# Altium footprint library PRJ_LIB_LTC2983_Card.PcbLib: 28 footprints (part 2 of 2)
Each footprint in its own frame and in the unit in brackets; x right, y up, seen from the top. Pads: shape width x height; smd on the part's side, far side on the other; paste and mask are expansions set on the pad; w line width, h text height; cw(c..) or ccw(c..) is an arc to the next point about the centre after c.
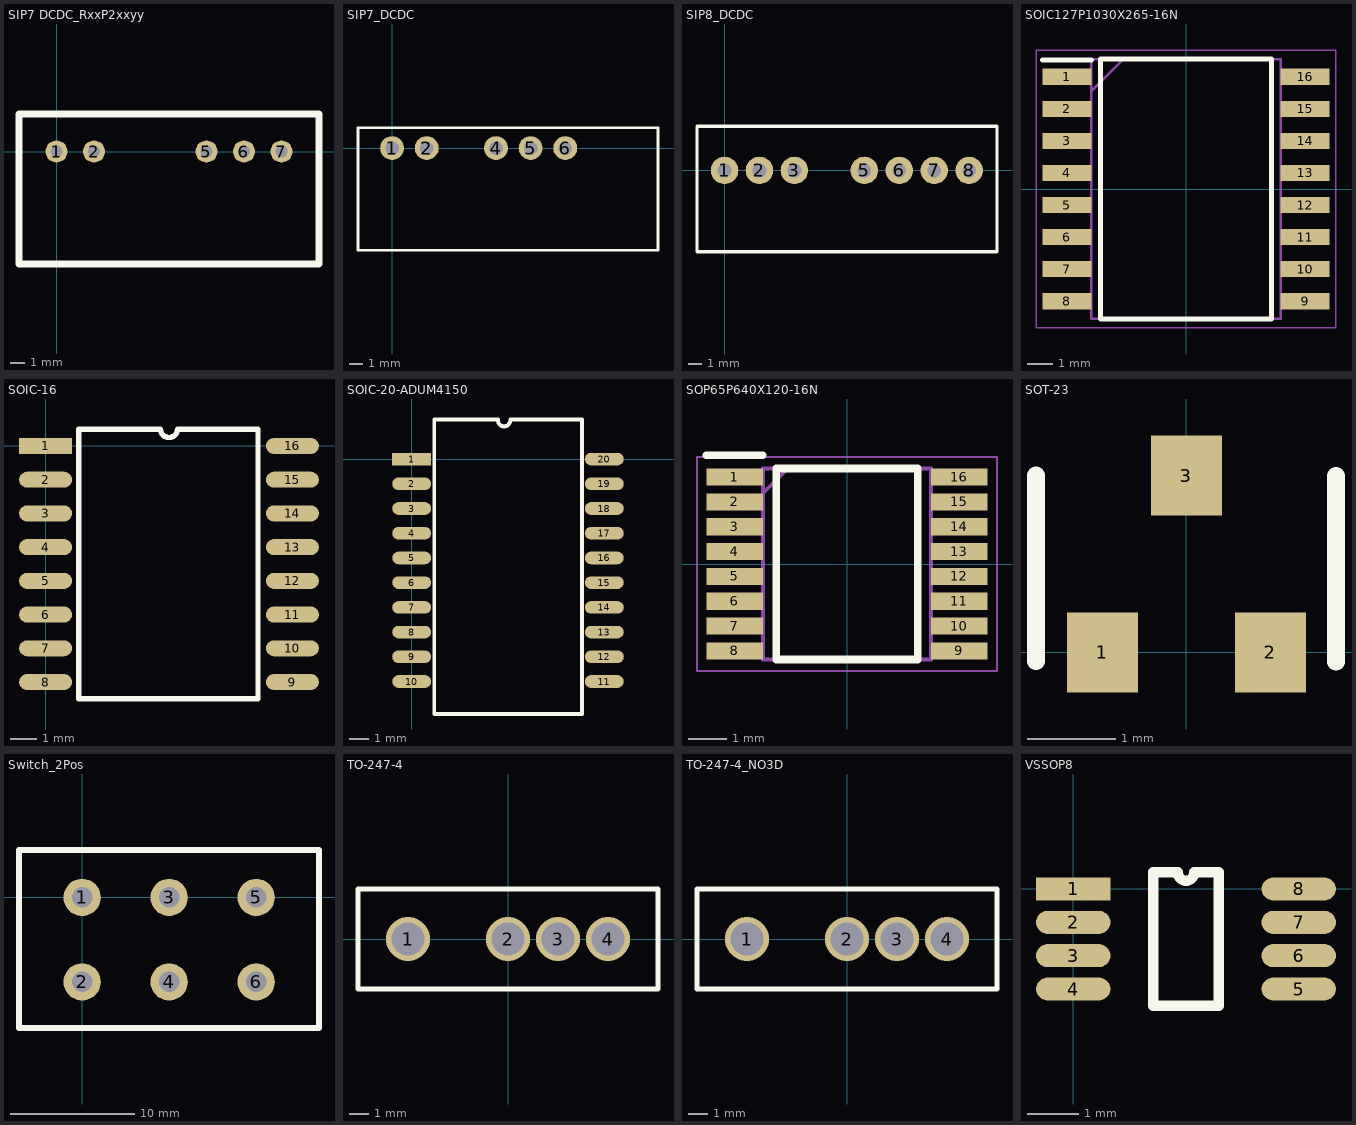
[diagram p1: the footprints below, top view; thin cyan lines are the x and y axes]

## SIP7 DCDC_RxxP2xxyy [mm]
pads (5):
  round 1.5 hole 0.8: 1(0,0) 2(2.54,0) 5(10.16,0) 6(12.7,0) 7(15.24,0)
Top Overlay:
  lines w0.5: -2.54,-7.62 -2.54,2.54 17.78,2.54 17.78,-7.62 -2.54,-7.62
3D body: height 0, standoff 0, extent 14.992,-0.249 15.49,0.25
3D body: height 0, standoff 0, extent 12.452,-0.249 12.95,0.25
3D body: height 0, standoff 0, extent 9.912,-0.249 10.41,0.25
3D body: height 0, standoff 0, extent 2.292,-0.249 2.79,0.25
3D body: height 0, standoff 0, extent -0.249,-0.25 0.249,0.25
3D body: height 12.5, standoff 0, extent -2.54,-7.62 17.78,2.54

## SIP7_DCDC [mm]
pads (5):
  round 1.75 hole 1: 1(0,0) 2(2.54,0) 4(7.62,0) 5(10.16,0) 6(12.7,0)
Top Overlay:
  lines w0.2: -2.5,-7.5 19.5,-7.5 19.5,1.5 -2.5,1.5 -2.5,-7.5
3D body: height 0, standoff 0, extent 12.452,-0.249 12.95,0.25
3D body: height 0, standoff 0, extent 9.912,-0.249 10.41,0.25
3D body: height 0, standoff 0, extent 7.372,-0.249 7.87,0.25
3D body: height 0, standoff 0, extent 2.292,-0.249 2.79,0.25
3D body: height 0, standoff 0, extent -0.249,-0.25 0.249,0.25
3D body: height 10, standoff 0, extent -2.5,-7.5 19.5,1.5

## SIP8_DCDC [mm]
pads (7):
  round 2 hole 1: 1(0,0) 2(2.54,0) 3(5.08,0) 5(10.16,0) 6(12.7,0) 7(15.24,0) 8(17.78,0)
Top Overlay:
  lines w0.25: -2,-5.9 1,-5.9 19.8,-5.9 19.8,3.2 -2,3.2 -2,-5.9
3D body: height 11.2, standoff 0, extent -2,-5.9 19.8,3.2

## SOIC127P1030X265-16N [mm]
pads (16):
  rect 1.95x0.65 smd: 1(-4.725,4.445) 2(-4.725,3.175) 3(-4.725,1.905) 4(-4.725,0.635) 5(-4.725,-0.635) 6(-4.725,-1.905) 7(-4.725,-3.175) 8(-4.725,-4.445) 9(4.725,-4.445) 10(4.725,-3.175) 11(4.725,-1.905) 12(4.725,-0.635) 13(4.725,0.635) 14(4.725,1.905) 15(4.725,3.175) 16(4.725,4.445)
Top Overlay:
  lines w0.2: -5.7,5.12 -3.75,5.12 ; -3.4,-5.15 3.4,-5.15 3.4,5.15 -3.4,5.15 -3.4,-5.15
Mechanical 13:
  lines w0.1: -3.75,3.88 -2.48,5.15 ; -3.75,-5.15 3.75,-5.15 3.75,5.15 -3.75,5.15 -3.75,-5.15
Mechanical 15:
  lines w0.05: -5.95,-5.5 5.95,-5.5 5.95,5.5 -5.95,5.5 -5.95,-5.5
3D body "UCC21710QDWQ1.stp": height 2.65, standoff 0, extent -5.15,-5.15 5.15,5.15

## SOIC-16 [mm]
pads (16):
  rect 2x0.6 smd: 1(0,0)
  oval 2x0.6 smd: 2(0,-1.27) 3(0,-2.54) 4(0,-3.81) 5(0,-5.08) 6(0,-6.35) 7(0,-7.62) 8(0,-8.89) 9(9.3,-8.89) 10(9.3,-7.62) 11(9.3,-6.35) 12(9.3,-5.08) 13(9.3,-3.81) 14(9.3,-2.54) 15(9.3,-1.27) 16(9.3,0)
Top Overlay:
  lines w0.2: 1.25,-9.525 8,-9.525 8,0.635 4.967,0.635 cw(c4.65,0.635) 4.332,0.635 1.25,0.635 1.25,-9.525
3D body: height 1.5, standoff 0, extent 1.25,-9.5 8,0.625
3D body: height 0.5, standoff 0, extent 7.95,-0.26 9.2,0.24
3D body: height 0.5, standoff 0, extent 7.95,-1.53 9.2,-1.03
3D body: height 0.5, standoff 0, extent 7.95,-2.8 9.2,-2.3
3D body: height 0.5, standoff 0, extent 7.95,-4.07 9.2,-3.57
3D body: height 0.5, standoff 0, extent 7.95,-5.34 9.2,-4.84
3D body: height 0.5, standoff 0, extent 7.95,-6.61 9.2,-6.11
3D body: height 0.5, standoff 0, extent 7.95,-7.88 9.2,-7.38
3D body: height 0.5, standoff 0, extent 7.95,-9.15 9.2,-8.65
3D body: height 0.5, standoff 0, extent 0,-9.14 1.25,-8.64
3D body: height 0.5, standoff 0, extent 0,-7.87 1.25,-7.37
3D body: height 0.5, standoff 0, extent 0,-6.6 1.25,-6.1
3D body: height 0.5, standoff 0, extent 0,-5.33 1.25,-4.83
3D body: height 0.5, standoff 0, extent 0,-4.06 1.25,-3.56
3D body: height 0.5, standoff 0, extent 0,-2.79 1.25,-2.29
3D body: height 0.5, standoff 0, extent 0,-1.52 1.25,-1.02
3D body: height 0.5, standoff 0, extent 0,-0.25 1.25,0.25

## SOIC-20-ADUM4150 [mm]
pads (20):
  rect 2x0.65 smd: 1(0,0)
  oval 2x0.65 smd: 2(0,-1.27) 3(0,-2.54) 4(0,-3.81) 5(0,-5.08) 6(0,-6.35) 7(0,-7.62) 8(0,-8.89) 9(0,-10.16) 10(0,-11.43) 11(9.9,-11.43) 12(9.9,-10.16) 13(9.9,-8.89) 14(9.9,-7.62) 15(9.9,-6.35) 16(9.9,-5.08) 17(9.9,-3.81) 18(9.9,-2.54) 19(9.9,-1.27) 20(9.9,0)
Top Overlay:
  lines w0.2: 4.433,2 ccw(c4.75,2) 5.068,2 ; 4.433,2.035 1.16,2.035 1.16,-10.665 1.16,-13.1 8.75,-13.1 8.75,-9.655 8.75,2.035 5.068,2.035
3D body: height 0.5, standoff 0, extent 8.7,-0.2 9.9,0.2
3D body: height 0.5, standoff 0, extent 8.7,-1.475 9.9,-1.075
3D body: height 0.5, standoff 0, extent 8.7,-2.75 9.9,-2.35
3D body: height 0.5, standoff 0, extent 8.7,-4.025 9.9,-3.625
3D body: height 0.5, standoff 0, extent 8.7,-5.3 9.9,-4.9
3D body: height 0.5, standoff 0, extent 8.7,-6.55 9.9,-6.15
3D body: height 0.5, standoff 0, extent 8.7,-7.825 9.9,-7.425
3D body: height 0.5, standoff 0, extent 8.7,-9.1 9.9,-8.7
3D body: height 0.5, standoff 0, extent 8.7,-10.35 9.9,-9.95
3D body: height 0.5, standoff 0, extent 8.7,-11.65 9.9,-11.25
3D body: height 0.5, standoff 0, extent 0,-11.65 1.2,-11.25
3D body: height 0.5, standoff 0, extent 0,-10.375 1.2,-9.975
3D body: height 0.5, standoff 0, extent 0,-9.1 1.2,-8.7
3D body: height 0.5, standoff 0, extent 0,-7.825 1.2,-7.425
3D body: height 0.5, standoff 0, extent 0,-6.55 1.2,-6.15
3D body: height 0.5, standoff 0, extent 0,-5.3 1.2,-4.9
3D body: height 0.5, standoff 0, extent 0,-4.025 1.2,-3.625
3D body: height 0.5, standoff 0, extent 0,-2.75 1.2,-2.35
3D body: height 0.5, standoff 0, extent 0,-1.5 1.2,-1.1
3D body: height 0.5, standoff 0, extent 0,-0.2 1.2,0.2
3D body: height 1.5, standoff 0, extent 1.2,-13.1 8.7,2

## SOP65P640X120-16N [mm]
pads (16):
  rect 1.475x0.45 smd: 1(-2.938,2.275) 2(-2.938,1.625) 3(-2.938,0.975) 4(-2.938,0.325) 5(-2.938,-0.325) 6(-2.938,-0.975) 7(-2.938,-1.625) 8(-2.938,-2.275) 9(2.938,-2.275) 10(2.938,-1.625) 11(2.938,-0.975) 12(2.938,-0.325) 13(2.938,0.325) 14(2.938,0.975) 15(2.938,1.625) 16(2.938,2.275)
Top Overlay:
  lines w0.2: -3.675,2.85 -2.2,2.85 ; -1.85,-2.5 -1.85,2.5 1.85,2.5 1.85,-2.5 -1.85,-2.5
Mechanical 13:
  lines w0.1: -2.2,1.85 -1.55,2.5 ; -2.2,-2.5 -2.2,2.5 2.2,2.5 2.2,-2.5 -2.2,-2.5
Mechanical 15:
  lines w0.05: -3.925,-2.8 -3.925,2.8 3.925,2.8 3.925,-2.8 -3.925,-2.8
3D body "AM26C32IPW.stp": height 1.2, standoff 0, extent -3.2,-2.5 3.2,2.5

## SOT-23 [mm]
pads (3):
  rect 0.8x0.9 smd: 1(-0.95,0) 2(0.95,0) 3(0,2)
Top Overlay:
  lines w0.2: -1.7,-0.1 -1.7,2 ; 1.69,-0.105 1.69,1.995
3D body: height 1, standoff 0, extent -1.7,0.3 1.7,1.8
3D body: height 0.25, standoff 0, extent -1.2,-0.3 -0.7,0.3
3D body: height 0.25, standoff 0, extent 0.7,-0.3 1.2,0.3
3D body: height 0.25, standoff 0, extent -0.25,1.8 0.25,2.4

## Switch_2Pos [mm]
pads (6):
  round 3 hole 1.65: 1(0,0) 2(0,-6.8) 3(7,0) 4(7,-6.8) 5(14,0) 6(14,-6.8)
Top Overlay:
  lines w0.5: -5.08,-10.5 19.05,-10.5 19.05,3.81 -5.08,3.81 -5.08,-10.5
3D body: height 16, standoff 0, extent 8.25,-5.75 12.75,-1
3D body: height 12, standoff 0, extent -4.75,-10.25 18.75,3.5

## TO-247-4 [mm]
pads (4):
  round 2.24 hole 1.7: 1(-5.08,0) 2(0,0) 3(2.54,0) 4(5.08,0)
Top Overlay:
  lines w0.254: -7.62,-2.54 7.62,-2.54 7.62,2.54 -7.62,2.54 -7.62,-2.54
3D body: height 27, standoff 0, extent -7.6,-2.5 7.6,2.5
3D body: height 0.25, standoff 0, extent -7.6,2.5 -7.6,2.5
3D body: height 0.25, standoff 0, extent -7.6,2.5 -7.6,2.5
3D body: height 0, standoff 0, extent -5.827,-0.749 -4.333,0.749
3D body: height 0, standoff 0, extent -0.744,-0.748 0.75,0.749
3D body: height 0, standoff 0, extent 1.796,-0.748 3.29,0.749
3D body: height 0, standoff 0, extent 4.336,-0.748 5.83,0.749

## TO-247-4_NO3D [mm]
pads (4):
  round 2.24 hole 1.7: 1(-5.08,0) 2(0,0) 3(2.54,0) 4(5.08,0)
Top Overlay:
  lines w0.254: -7.62,-2.54 7.62,-2.54 7.62,2.54 -7.62,2.54 -7.62,-2.54
3D body: height 0.25, standoff 0, extent -7.6,2.5 -7.6,2.5
3D body: height 0.25, standoff 0, extent -7.6,2.5 -7.6,2.5

## VSSOP8 [mm]
pads (8):
  rect 1.45x0.45 smd: 1(0,0)
  oval 1.45x0.45 smd: 2(0,-0.65) 3(0,-1.3) 4(0,-1.95) 5(4.4,-1.95) 6(4.4,-1.3) 7(4.4,-0.65) 8(4.4,0)
Top Overlay:
  lines w0.2: 1.56,-2.275 2.84,-2.275 2.84,0.325 2.362,0.325 cw(c2.2,0.325) 2.037,0.325 1.56,0.325 1.56,-2.275
3D body: height 0.25, standoff 0, extent 3.7,-2.15 4.4,-1.75
3D body: height 0.25, standoff 0, extent 0,-2.15 0.7,-1.75
3D body: height 0.25, standoff 0, extent 3.7,-1.5 4.4,-1.1
3D body: height 0.25, standoff 0, extent 0,-1.5 0.7,-1.1
3D body: height 0.25, standoff 0, extent 3.7,-0.85 4.4,-0.45
3D body: height 0.25, standoff 0, extent 0,-0.85 0.7,-0.45
3D body: height 0.25, standoff 0, extent 3.7,-0.2 4.4,0.2
3D body: height 0.25, standoff 0, extent 0,-0.2 0.7,0.2
3D body: height 1.1, standoff 0, extent 0.7,-2.5 3.7,0.5